# Altium footprint library CD74HC405x.PcbLib: 3 footprints
Each footprint in its own frame and in the unit in brackets; x right, y up, seen from the top. Pads: shape width x height; smd on the part's side, far side on the other; paste and mask are expansions set on the pad; w line width, h text height; cw(c..) or ccw(c..) is an arc to the next point about the centre after c.
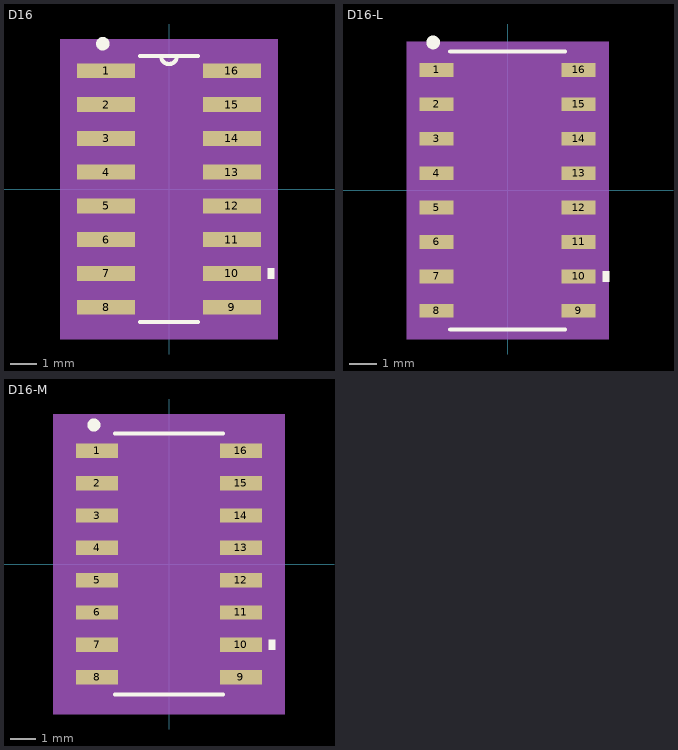
[diagram p0: the footprints below, top view; thin cyan lines are the x and y axes]

## D16 [mil]
pads (16):
  rect 86x22 smd: 1(-93,175) 2(-93,125) 3(-93,75) 4(-93,25) 5(-93,-25) 6(-93,-75) 7(-93,-125) 8(-93,-175) 9(93,-175) 10(93,-125) 11(93,-75) 12(93,-25) 13(93,25) 14(93,75) 15(93,125) 16(93,175)
Top Overlay:
  circle w10: c-98,215 r5
  region: 146,-117.5 156,-117.5 156,-132.5 146,-132.5
  lines w6: -42.89,-197 42.89,-197 ; -42.89,197 42.89,197 ; -12,197 ccw(c0,197) 12,197
Mechanical 5:
  region: 161,-222 -161,-222 -161,222 161,222
Mechanical 13:
  lines w0: -12,197 ccw(c0,197) 12,197
  lines w1: -122,-185 -122,-165 -78.5,-165 -78.5,-185 -122,-185 ; -122,-135 -122,-115 -78.5,-115 -78.5,-135 -122,-135 ; -122,-85 -122,-65 -78.5,-65 -78.5,-85 -122,-85 ; -122,-35 -122,-15 -78.5,-15 -78.5,-35 -122,-35 ; -122,15 -122,35 -78.5,35 -78.5,15 -122,15 ; -122,65 -122,85 -78.5,85 -78.5,65 -122,65 ; -122,115 -122,135 -78.5,135 -78.5,115 -122,115 ; -122,165 -122,185 -78.5,185 -78.5,165 -122,165 ; -78.5,-197 78.5,-197 78.5,197 -78.5,197 -78.5,-197 ; 78.5,-185 78.5,-165 122,-165 122,-185 78.5,-185 ; 78.5,-135 78.5,-115 122,-115 122,-135 78.5,-135 ; 78.5,-85 78.5,-65 122,-65 122,-85 78.5,-85 ; 78.5,-35 78.5,-15 122,-15 122,-35 78.5,-35 ; 78.5,15 78.5,35 122,35 122,15 78.5,15 ; 78.5,65 78.5,85 122,85 122,65 78.5,65 ; 78.5,115 78.5,135 122,135 122,115 78.5,115 ; 78.5,165 78.5,185 122,185 122,165 78.5,165
Mechanical 15:
  region: 146,-207 -146,-207 -146,207 146,207
  lines w6: -146,-207 -146,207 146,207 146,-207 -146,-207
3D body "D16.step": height 69.09, standoff 0, extent -122.01,-197.01 122.01,197.01

## D16-L [mil]
pads (16):
  rect 49.5x20 smd paste+0 mask+0: 1(-103.25,175) 2(-103.25,125) 3(-103.25,75) 4(-103.25,25) 5(-103.25,-25) 6(-103.25,-75) 7(-103.25,-125) 8(-103.25,-175) 9(103.25,-175) 10(103.25,-125) 11(103.25,-75) 12(103.25,-25) 13(103.25,25) 14(103.25,75) 15(103.25,125) 16(103.25,175)
Top Overlay:
  circle w10: c-108.25,215 r5
  region: 138,-117.5 148,-117.5 148,-132.5 138,-132.5
  lines w6: -83.5,-202 83.5,-202 ; -83.5,202 83.5,202
Mechanical 5:
  region: 147,-216 -147,-216 -147,216 147,216
Mechanical 13:
  lines w0: -12,197 ccw(c0,197) 12,197
  lines w1: -122,-185 -122,-165 -78.5,-165 -78.5,-185 -122,-185 ; -122,-135 -122,-115 -78.5,-115 -78.5,-135 -122,-135 ; -122,-85 -122,-65 -78.5,-65 -78.5,-85 -122,-85 ; -122,-35 -122,-15 -78.5,-15 -78.5,-35 -122,-35 ; -122,15 -122,35 -78.5,35 -78.5,15 -122,15 ; -122,65 -122,85 -78.5,85 -78.5,65 -122,65 ; -122,115 -122,135 -78.5,135 -78.5,115 -122,115 ; -122,165 -122,185 -78.5,185 -78.5,165 -122,165 ; -78.5,-197 78.5,-197 78.5,197 -78.5,197 -78.5,-197 ; 78.5,-185 78.5,-165 122,-165 122,-185 78.5,-185 ; 78.5,-135 78.5,-115 122,-115 122,-135 78.5,-135 ; 78.5,-85 78.5,-65 122,-65 122,-85 78.5,-85 ; 78.5,-35 78.5,-15 122,-15 122,-35 78.5,-35 ; 78.5,15 78.5,35 122,35 122,15 78.5,15 ; 78.5,65 78.5,85 122,85 122,65 78.5,65 ; 78.5,115 78.5,135 122,135 122,115 78.5,115 ; 78.5,165 78.5,185 122,185 122,165 78.5,165
  text "*" at -76,144 h50
Mechanical 15:
  region: -82.5,-189 -132,-189 -132,189 -82.5,189 -82.5,201 82.5,201 82.5,189 132,189 132,-189 82.5,-189 82.5,-201 -82.5,-201
  lines w6: -132,-189 -132,189 -82.5,189 -82.5,201 82.5,201 82.5,189 132,189 132,-189 82.5,-189 82.5,-201 -82.5,-201 -82.5,-189 -132,-189
3D body "D16.step": height 69.09, standoff 0, extent -122.01,-197.01 122.01,197.01

## D16-M [mil]
pads (16):
  rect 65.5x22 smd paste+0 mask+0: 1(-111.25,175) 2(-111.25,125) 3(-111.25,75) 4(-111.25,25) 5(-111.25,-25) 6(-111.25,-75) 7(-111.25,-125) 8(-111.25,-175) 9(111.25,-175) 10(111.25,-125) 11(111.25,-75) 12(111.25,-25) 13(111.25,25) 14(111.25,75) 15(111.25,125) 16(111.25,175)
Top Overlay:
  circle w10: c-116.25,215 r5
  region: 154,-117.5 164,-117.5 164,-132.5 154,-132.5
  lines w6: -83.5,-202 83.5,-202 ; -83.5,202 83.5,202
Mechanical 5:
  region: 179,-232 -179,-232 -179,232 179,232
Mechanical 13:
  lines w0: -12,197 ccw(c0,197) 12,197
  lines w1: -122,-185 -122,-165 -78.5,-165 -78.5,-185 -122,-185 ; -122,-135 -122,-115 -78.5,-115 -78.5,-135 -122,-135 ; -122,-85 -122,-65 -78.5,-65 -78.5,-85 -122,-85 ; -122,-35 -122,-15 -78.5,-15 -78.5,-35 -122,-35 ; -122,15 -122,35 -78.5,35 -78.5,15 -122,15 ; -122,65 -122,85 -78.5,85 -78.5,65 -122,65 ; -122,115 -122,135 -78.5,135 -78.5,115 -122,115 ; -122,165 -122,185 -78.5,185 -78.5,165 -122,165 ; -78.5,-197 78.5,-197 78.5,197 -78.5,197 -78.5,-197 ; 78.5,-185 78.5,-165 122,-165 122,-185 78.5,-185 ; 78.5,-135 78.5,-115 122,-115 122,-135 78.5,-135 ; 78.5,-85 78.5,-65 122,-65 122,-85 78.5,-85 ; 78.5,-35 78.5,-15 122,-15 122,-35 78.5,-35 ; 78.5,15 78.5,35 122,35 122,15 78.5,15 ; 78.5,65 78.5,85 122,85 122,65 78.5,65 ; 78.5,115 78.5,135 122,135 122,115 78.5,115 ; 78.5,165 78.5,185 122,185 122,165 78.5,165
  text "*" at -76,144 h50
Mechanical 15:
  region: -98.5,-206 -164,-206 -164,206 -98.5,206 -98.5,217 98.5,217 98.5,206 164,206 164,-206 98.5,-206 98.5,-217 -98.5,-217
  lines w6: -164,-206 -164,206 -98.5,206 -98.5,217 98.5,217 98.5,206 164,206 164,-206 98.5,-206 98.5,-217 -98.5,-217 -98.5,-206 -164,-206
3D body "D16.step": height 69.09, standoff 0, extent -122.01,-197.01 122.01,197.01